# Altium footprint library Vicor.PcbLib: 3 footprints
Each footprint in its own frame and in the unit in brackets; x right, y up, seen from the top. Pads: shape width x height; smd on the part's side, far side on the other; paste and mask are expansions set on the pad; w line width, h text height; cw(c..) or ccw(c..) is an arc to the next point about the centre after c.
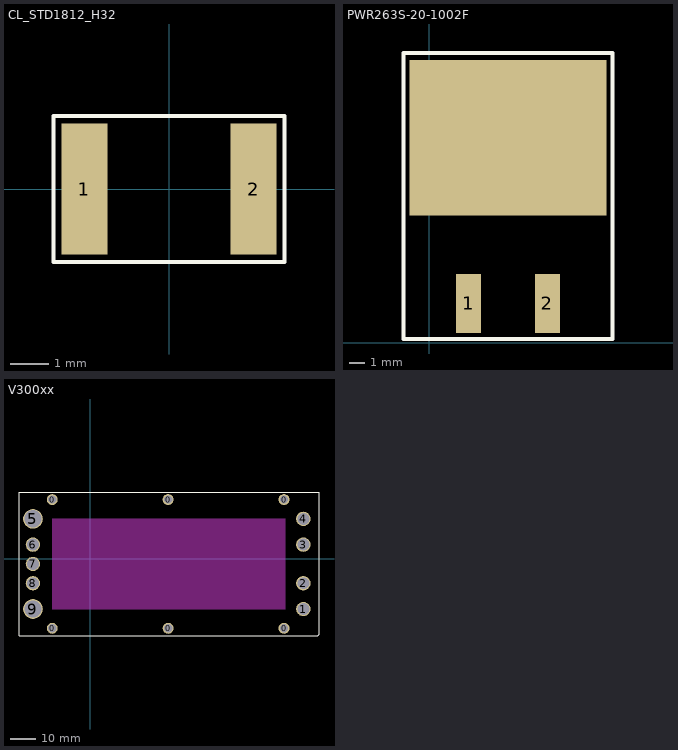
[diagram p0: the footprints below, top view; thin cyan lines are the x and y axes]

## CL_STD1812_H32 [mm] "CL_1812"
height 3.2
pads (2):
  rect 1.2x3.4 smd: 1(-2.2,0) 2(2.2,0)
Top Overlay:
  lines w0.1: -3,-1.9 -3,1.9 3,1.9 3,-1.9 -3,-1.9
3D body "SW3dPS-1812 SMD Resistor.STEP": height 1.6, standoff 0, extent -2.25,-1.6 2.25,1.6

## PWR263S-20-1002F [mm]
pads (3):
  rect 1.6x3.81 smd: 1(2.54,2.54) 2(7.62,2.54)
  rect 12.7x10 smd: ""(5.08,13.208)
Top Overlay:
  lines w0.254: -1.651,0.254 11.811,0.254 11.811,18.669 -1.651,18.669 -1.651,0.254

## V300xx [mil]
pads (15):
  round 170 hole 129: 0(-588.66,-1079.06) 0(-588.66,920.94) 0(1211.34,-1079.06) 0(1211.34,920.94) 0(3011.34,-1079.06) 0(3011.34,920.94)
  round 223 hole 185: 1(3311.34,-779.06) 2(3311.34,-379.06) 3(3311.34,220.94) 4(3311.34,620.94) 6(-888.66,220.94) 7(-888.66,-79.06) 8(-888.66,-379.06)
  round 306 hole 268: 5(-888.66,620.94) 9(-888.66,-779.06)
Top Overlay:
  lines w10: -1105,-1195 3535,-1195 3555,-1175 3555,997.5 3555,1035 -1105,1035 -1105,1034.38 -1105,-1195
Keep-Out Layer:
  board cut-out: -588,620 3030,620 3030,-785 -588,-785
3D body "SW3dPS-vicor second gen module.STEP": height 430, standoff -188.11, extent -1088.66,-1179.05 3511.34,1020.95
3D body: height 10, standoff 0, extent 1395,840 1395,840